# EAGLE library part ESP32-H2-MINI-1-N2 (library ESP32-H2-MINI-1U-passend)
Multiprotocol Modules ENGINEERING SAMPLE Bluetooth Low Energy and IEEE 802.15.4 module with ESP32-H2 chip Source: Datasheet <https://www.espressif.com/sites/default/files/documentation/esp32-h2-mini-1_mini-1u_datasheet_en.pdf>
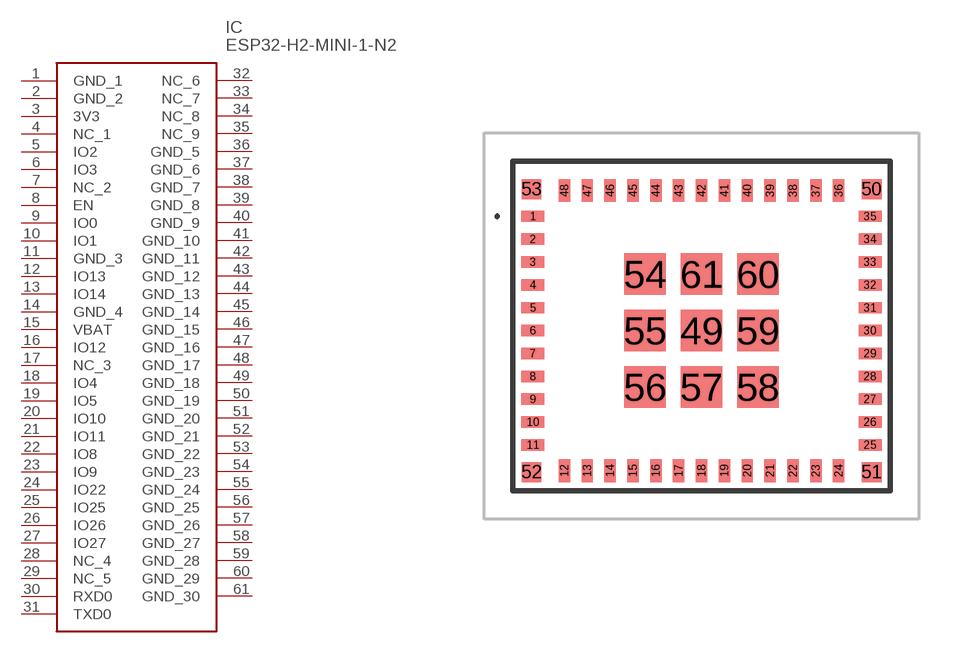
[diagram p0: symbol with the pads of ESP32H2MINI1N2; footprint ESP32H2MINI1N2]

Designator prefix IC

## ESP32-H2-MINI-1-N2 (DESCRIPTION: Multiprotocol Modules ENGINEERING SAMPLE Bluetooth Low Energy and IEEE 802.15.4 module with ESP32-H2 chip; HEIGHT: 2.55mm; MANUFACTURER_NAME: Espressif Systems; MANUFACTURER_PART_NUMBER: ESP32-H2-MINI-1-N2; MOUSER_PART_NUMBER: 356-ESP32H2MINI1-N2; MOUSER_PRICE-STOCK: https://www.mouser.co.uk/ProductDetail/Espressif-Systems/ESP32-H2-MINI-1-N2?qs=Jm2GQyTW%2FbhDEK4sfiNMsw%3D%3D)  [ESP32H2MINI1N2]
1  GND_1
2  GND_2
3  3V3
4  NC_1
5  IO2
6  IO3
7  NC_2
8  EN
9  IO0
10  IO1
11  GND_3
12  IO13
13  IO14
14  GND_4
15  VBAT
16  IO12
17  NC_3
18  IO4
19  IO5
20  IO10
21  IO11
22  IO8
23  IO9
24  IO22
25  IO25
26  IO26
27  IO27
28  NC_4
29  NC_5
30  RXD0
31  TXD0
32  NC_6
33  NC_7
34  NC_8
35  NC_9
36  GND_5
37  GND_6
38  GND_7
39  GND_8
40  GND_9
41  GND_10
42  GND_11
43  GND_12
44  GND_13
45  GND_14
46  GND_15
47  GND_16
48  GND_17
49  GND_18
50  GND_19
51  GND_20
52  GND_21
53  GND_22
54  GND_23
55  GND_24
56  GND_25
57  GND_26
58  GND_27
59  GND_28
60  GND_29
61  GND_30

## Footprint ESP32H2MINI1N2 (pad centres in mm)
ESP32-H2-MINI-1-N2-1
smd 0.8 x 0.4: 1 -5.9,1.3; 2 -5.9,0.5; 3 -5.9,-0.3; 4 -5.9,-1.1; 5 -5.9,-1.9; 6 -5.9,-2.7; 7 -5.9,-3.5; 8 -5.9,-4.3; 9 -5.9,-5.1; 10 -5.9,-5.9; 11 -5.9,-6.7; 25 5.9,-6.7; 26 5.9,-5.9; 27 5.9,-5.1; 28 5.9,-4.3; 29 5.9,-3.5; 30 5.9,-2.7; 31 5.9,-1.9; 32 5.9,-1.1; 33 5.9,-0.3; 34 5.9,0.5; 35 5.9,1.3
smd 0.4 x 0.8: 12 -4.8,-7.6; 13 -4,-7.6; 14 -3.2,-7.6; 15 -2.4,-7.6; 16 -1.6,-7.6; 17 -0.8,-7.6; 18 0,-7.6; 19 0.8,-7.6; 20 1.6,-7.6; 21 2.4,-7.6; 22 3.2,-7.6; 23 4,-7.6; 24 4.8,-7.6; 36 4.8,2.2; 37 4,2.2; 38 3.2,2.2; 39 2.4,2.2; 40 1.6,2.2; 41 0.8,2.2; 42 0,2.2; 43 -0.8,2.2; 44 -1.6,2.2; 45 -2.4,2.2; 46 -3.2,2.2; 47 -4,2.2; 48 -4.8,2.2
smd 1.45 x 1.45: 49 0,-2.7; 54 -1.975,-0.725; 55 -1.975,-2.7; 56 -1.975,-4.675; 57 0,-4.675; 58 1.975,-4.675; 59 1.975,-2.7; 60 1.975,-0.725; 61 0,-0.725
smd 0.7 x 0.7: 50 5.95,2.25; 51 5.95,-7.65; 52 -5.95,-7.65; 53 -5.95,2.25